# Altium footprint library PcbLib1.PcbLib: 34 footprints (part 1 of 3)
Each footprint in its own frame and in the unit in brackets; x right, y up, seen from the top. Pads: shape width x height; smd on the part's side, far side on the other; paste and mask are expansions set on the pad; w line width, h text height; cw(c..) or ccw(c..) is an arc to the next point about the centre after c.
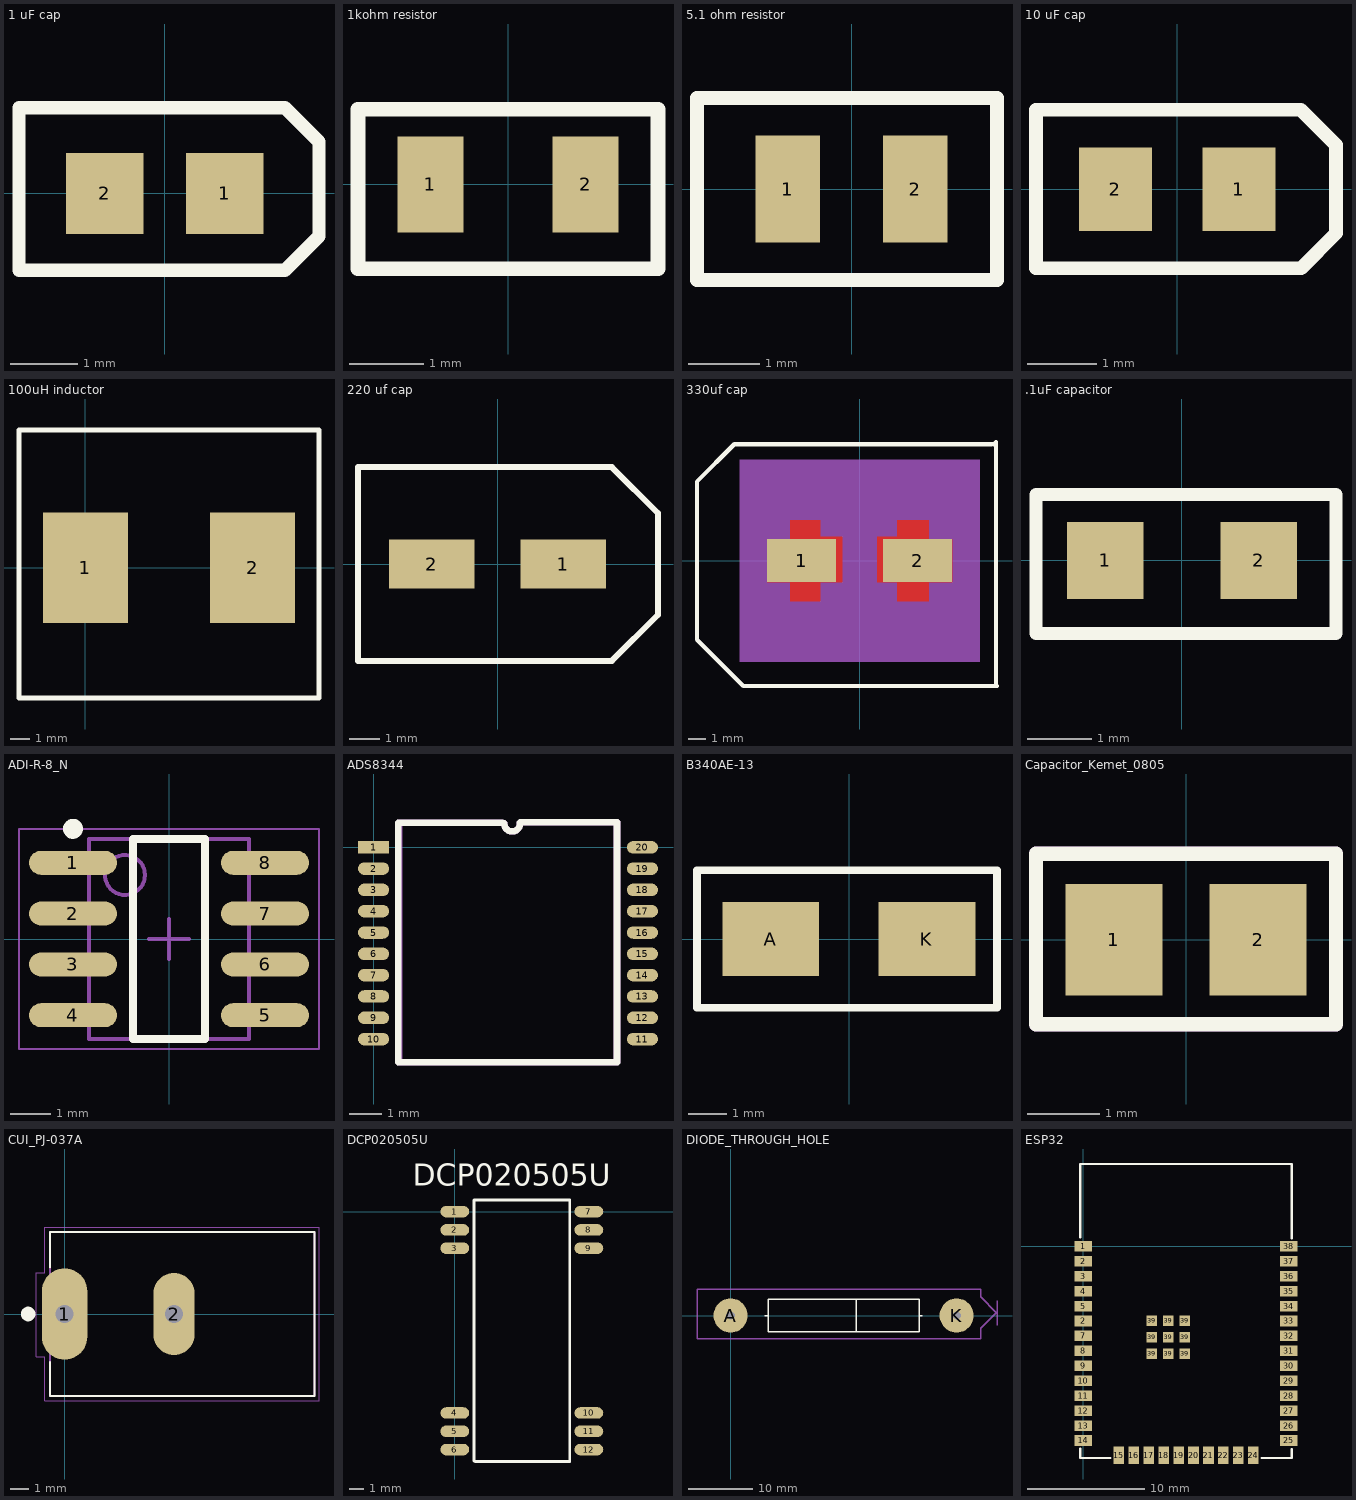
[diagram p0: the footprints below, top view; thin cyan lines are the x and y axes]

## 1 uF cap [mm]
pads (2):
  rect 1.15x1.2 smd: 1(0.889,0) 2(-0.889,0)
Top Overlay:
  lines w0.2: -2.159,-1.143 1.778,-1.143 2.286,-0.635 2.286,0.762 1.778,1.27 -2.159,1.27 -2.159,-0.758 -2.159,-1.143
3D body "CAP_TMCHPTMCP_VIS.step": height 1.24, standoff 0, extent -1.118,-0.724 1.118,0.724

## 1kohm resistor [mm]
pads (2):
  rect 0.9x1.3 smd: 1(-1.05,0) 2(1.05,0)
Top Overlay:
  lines w0.2: -2.032,-1.143 -2.032,0 -2.032,1.016 2.032,1.016 2.032,-1.143 -2.032,-1.143
3D body "STA_RMCF0805_STP.step": height 0.66, standoff 0, extent -1.105,-0.673 1.105,0.673

## 5.1 ohm resistor [mm]
pads (2):
  rect 0.9x1.5 smd: 1(-0.889,0) 2(0.889,0)
Top Overlay:
  lines w0.2: -2.159,-1.27 -2.159,-0.127 -2.159,1.27 2.032,1.27 2.032,-1.27 -2.159,-1.27
3D body "RES_RMCF0805_STP.step": height 0.66, standoff 0, extent -1.105,-0.673 1.105,0.673

## 10 uF cap [mm]
pads (2):
  rect 1.05x1.2 smd: 1(0.889,0) 2(-0.889,0)
Top Overlay:
  lines w0.2: -2.032,-1.139 -2.032,1.143 1.778,1.143 2.286,0.635 2.286,-0.635 1.782,-1.139 -2.032,-1.139
3D body "CAP_TMCHPTMCP_VIS.step": height 1.24, standoff 0, extent -1.118,-0.724 1.118,0.724

## 100uH inductor [mm]
pads (2):
  rect 4.4x5.7 smd: 1(0,0) 2(8.636,0)
Top Overlay:
  lines w0.254: 12.065,-4.572 12.065,4.318 ; 12.065,4.318 12.065,-6.731 -3.429,-6.731 -3.429,-4.699 -3.429,4.191 -3.429,7.112 12.065,7.112 12.065,4.318
3D body "IND_MSS1278_COC.step": height 8.05, standoff 0, extent -1.829,-6.274 10.465,6.02

## 220 uf cap [mm]
pads (2):
  rect 2.8x1.6 smd: 1(2.15,0) 2(-2.15,0)
Top Overlay:
  lines w0.2: -4.572,-3.175 -4.572,0.678 -4.572,3.175 3.742,3.175 5.25,1.667 5.25,-1.667 3.742,-3.175 -4.572,-3.175
3D body "CAP_PAN_EEE_C_PAN.step": height 6.15, standoff 0, extent -3.251,-2.756 3.251,2.756

## 330uf cap [mil]
pads (2):
  rect 157x98 smd paste+0 mask+0: 1(-131.89,0) 2(131.89,0)
Top Layer:
  region: 85,55 40,55 40,-49 85,-49 85,-92 157.39,-92 157.39,-49 210.39,-49 210.39,49 157.39,49 157.39,92 85,92
  region: -157.39,49 -210.39,49 -210.39,-49 -157.39,-49 -157.39,-92 -90,-92 -90,-49 -40,-49 -40,55 -90,55 -90,92 -157.39,92
Top Overlay:
  lines w10: 300,265 -285,265 -370,180 -370,-180 -265,-285 312.28,-285 310,-282.72 310,270 305,265
Top Paste:
  region: 106.39,49 53.39,49 53.39,-49 106.39,-49 106.39,-92 157.39,-92 157.39,-49 210.39,-49 210.39,49 157.39,49 157.39,92 106.39,92
Top Solder:
  region: 106.39,49 53.39,49 53.39,-49 106.39,-49 106.39,-92 157.39,-92 157.39,-49 210.39,-49 210.39,49 157.39,49 157.39,92 106.39,92
Mechanical 5:
  region: 272.89,-230 -272.89,-230 -272.89,230 272.89,230
Mechanical 13:
  lines w1: -167.32,-167.32 167.32,-167.32 167.32,167.32 -167.32,167.32 -167.32,-167.32
Mechanical 15:
  region: -187.5,-59 -220.39,-59 -220.39,59 -187.5,59 -187.5,177.5 187.5,177.5 187.5,59 220.39,59 220.39,-59 187.5,-59 187.5,-177.5 -187.5,-177.5
  lines w6: -220.39,-59 -220.39,59 -187.5,59 -187.5,177.5 187.5,177.5 187.5,59 220.39,59 220.39,-59 187.5,-59 187.5,-177.5 -187.5,-177.5 -187.5,-59 -220.39,-59
3D body "EEEFT1V331GV.STEP": height 413.93, standoff 0.5, extent -190.94,-158.39 190.94,168.39
3D body: height 10, standoff 0, extent 0,0 10,10

## .1uF capacitor [mm]
pads (2):
  rect 1.2x1.2 smd: 1(-1.2,0) 2(1.2,0)
Top Overlay:
  lines w0.2: -2.286,-1.143 -2.286,1.033 2.413,1.033 2.413,-1.143 -2.286,-1.143
3D body "CAP_CL21_SAM.step": height 1.35, standoff 0, extent -1,-0.625 1,0.625

## ADI-R-8_N [mm] "SOIC, 8-Leads, Body 4.9x3.9mm, Pitch 1.27mm, IPC Medium Density"
height 1.75
pads (8):
  oval 2.2x0.6 smd: 1(-2.4,1.905) 2(-2.4,0.635) 3(-2.4,-0.635) 4(-2.4,-1.905) 5(2.4,-1.905) 6(2.4,-0.635) 7(2.4,0.635) 8(2.4,1.905)
Top Overlay:
  circle w0.25: c-2.4,2.755 r0.125
  lines w0.2: -0.9,-2.5 -0.9,2.5 0.9,2.5 0.9,-2.5 -0.9,-2.5
Mechanical 13:
  circle w0.1: c-1.1,1.6 r0.5
  lines w0.1: -2,-2.5 -2,2.5 2,2.5 2,-2.5 -2,-2.5
Mechanical 15:
  lines w0.05: -3.75,-2.75 -3.75,2.75 3.75,2.75 3.75,-2.75 -3.75,-2.75
  lines w0.1: -0.5,0 0.5,0 ; 0,-0.5 0,0.5
3D body "R_8_ADI.step": height 1.76, standoff 0, extent -3.099,-2.502 3.099,2.502

## ADS8344 [mm]
pads (20):
  rect 0.95x0.38 smd: 1(0,0)
  oval 0.95x0.38 smd: 2(0,-0.65) 3(0,-1.3) 4(0,-1.95) 5(0,-2.6) 6(0,-3.25) 7(0,-3.9) 8(0,-4.55) 9(0,-5.2) 10(0,-5.85) 11(8.2,-5.85) 12(8.2,-5.2) 13(8.2,-4.55) 14(8.2,-3.9) 15(8.2,-3.25) 16(8.2,-2.6) 17(8.2,-1.95) 18(8.2,-1.3) 19(8.2,-0.65) 20(8.2,0)
Top Overlay:
  lines w0.2: 3.925,0.744 0.75,0.744 0.75,-6.55 7.425,-6.55 7.425,0.769 4.475,0.769 ; 3.989,0.738 ccw(c4.225,0.719) 4.461,0.74
Top Assembly:
  lines w0.2: 3.925,0.744 0.775,0.744 0.775,-6.55 7.425,-6.55 7.425,0.769 4.475,0.769 ; 3.989,0.738 ccw(c4.225,0.719) 4.461,0.74
  text ".Designator" at 4.34,-6.479 h0.7
3D body "DB20.step": height 2.01, standoff 0, extent -0.027,-6.671 8.177,0.821

## B340AE-13 [mm]
pads (2):
  rect 2.5x1.9 smd: A(-2.032,0) K(2,0)
Top Overlay:
  lines w0.2: -3.937,-1.778 3.81,-1.778 3.81,1.778 -3.937,1.778 -3.937,-0.201 -3.937,-1.778
3D body "CR_SMA_320-340AE_DIO.step": height 2.44, standoff 0, extent -2.794,-1.46 2.794,1.46

## Capacitor_Kemet_0805 [mm]
pads (2):
  rect 1.35x1.55 smd: 1(-1,0) 2(1,0)
Top Overlay:
  lines w0.2: -2.083,-1.168 -2.083,1.194 2.083,1.194 2.083,-1.168 -2.083,-1.168
Top Assembly:
  lines w0.2: -2.083,-1.168 -2.083,1.194 2.083,1.194 2.083,-1.168 -2.083,-1.168
  text ".Designator" at -1.602,-0.2 h0.7
3D body "CAPC230145_140N_KEM.step": height 1.4, standoff 0, extent -1.15,-0.725 1.15,0.725

## CUI_PJ-037A [mm]
pads (2):
  oval 2.5x5 hole 1 square: 1(0,0)
  oval 2.25x4.5 hole 1 square: 2(6,0)
Top Overlay:
  circle w0.4: c-2,0 r0.2
  lines w0.127: -0.8,-2.65 -0.8,-4.5 13.7,-4.5 13.7,4.5 -0.8,4.5 -0.8,2.55
Mechanical 13:
  lines w0.127: -0.8,-4.5 -0.8,4.5 13.7,4.5 13.7,-4.5 -0.8,-4.5
Mechanical 15:
  lines w0.05: -1.55,-2.35 -1.1,-2.35 -1.1,-4.75 13.95,-4.75 13.95,4.75 -1.1,4.75 -1.1,2.25 -1.55,2.25 -1.55,-2.35
3D body "CUI_DEVICES_PJ-037A.step": height 10.51, standoff -3.98, extent -0.911,-4.627 13.589,4.373

## DCP020505U [mm]
pads (12):
  oval 2x0.8 smd: 1(0,0) 2(0,-1.27) 3(0,-2.54) 4(0,-13.97) 5(0,-15.24) 6(0,-16.51) 7(9.3,0) 8(9.3,-1.27) 9(9.3,-2.54) 10(9.3,-13.97) 11(9.3,-15.24) 12(9.3,-16.51)
Top Overlay:
  lines w0.2: 1.327,-17.305 1.327,0.795 ; 1.397,-17.345 7.973,-17.345 7.973,0.795 ; 1.397,0.816 7.973,0.816
  text "DCP020505U" at -2.921,1.778 h1.52
3D body "DVB12_TEX.step": height 1.7, standoff 0, extent -0.626,-17.305 10.024,0.795

## DIODE_THROUGH_HOLE [mm]
pads (2):
  round 5.3 hole 1.3: A(0,0) K(35,0)
Top Overlay:
  lines w0.2: 5.3,0 5.825,0 ; 19.442,-2.5 19.442,2.5 ; 29.175,0 29.7,0 ; 5.825,0 5.825,2.5 29.175,2.5 29.175,-2.5 5.825,-2.5 5.825,0
Top Assembly:
  lines w0.2: 41.25,-1.525 41.25,2.275 ; -5.2,-3.575 38.7,-3.575 38.7,-1.975 41.125,0.45 38.7,2.875 38.7,4.05 -5.2,4.05 -5.2,-3.575
  text ".Designator" at 9.676,-0.324 h0.7

## ESP32 [mm]
pads (47):
  rect 1.5x0.9 smd: 1(0,0) 2(0,-6.35) 2(0,-1.27) 3(0,-2.54) 4(0,-3.81) 5(0,-5.08) 7(0,-7.62) 8(0,-8.89) 9(0,-10.16) 10(0,-11.43) 11(0,-12.7) 12(0,-13.97) 13(0,-15.24) 14(0,-16.51) 25(17.5,-16.51) 26(17.5,-15.24) 27(17.5,-13.97) 28(17.5,-12.7) 29(17.5,-11.43) 30(17.5,-10.16) 31(17.5,-8.89) 32(17.5,-7.62) 33(17.5,-6.35) 34(17.5,-5.08) 35(17.5,-3.81) 36(17.5,-2.54) 37(17.5,-1.27) 38(17.5,0)
  rect 0.9x1.5 smd: 15(3.035,-17.76) 16(4.31,-17.76) 17(5.58,-17.76) 18(6.86,-17.76) 19(8.12,-17.76) 20(9.39,-17.76) 21(10.66,-17.76) 22(11.93,-17.76) 23(13.2,-17.76) 24(14.47,-17.76)
  rect 0.9x0.9 smd: 39(5.85,-9.12) 39(5.85,-7.72) 39(5.85,-6.32) 39(7.25,-9.12) 39(7.25,-7.72) 39(7.25,-6.32) 39(8.65,-9.12) 39(8.65,-7.72) 39(8.65,-6.32)
Top Overlay:
  lines w0.2: -0.25,-17.225 -0.25,-18 2.3,-18 ; -0.25,0.75 -0.25,7 17.75,7 17.75,0.7 ; 15.175,-18 17.75,-18 17.75,-17.25